# Altium integrated library RF_Filters.IntLib: 2 symbols
Pins are listed as number, name and electrical type; pins without a type are passive.

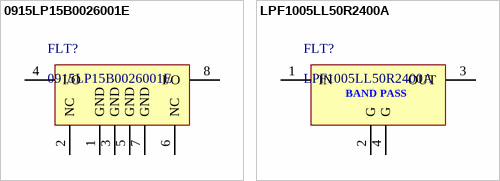
[diagram p0: symbols 0915LP15B0026001E to LPF1005LL50R2400A]

## 0915LP15B0026001E
designator FLT?
Low Pass Filters, 0805, 902-928MHz, 3W, 0.5dB, Ni/Sn (RoHS), 7" Reel Embossed Tape; Manufacturer: Johanson; Frequency: 915MHz; Supplier: DigiKey; Supplier Part Number: 712-0915LP15B0026001ECT-ND; Manufacturer Part Number: 0915LP15B0026001E; RoHS: Compliant; Category: RF Filters; Stock: 83329; Pricing: 1=0,43, 10=0,347, 25=0,3192, 50=0,3004, 100=0,2824, 250=0,26044, 500=0,24496, 1000=0,23041 (USD); Case/Package: 0805; Height: 950µm; Max Operating Temperature: 85°C; Min Operating Temperature: -40°C; ComponentLink1URL: https://datasheet.octopart.com:443/0915LP15B0026001E-Johanson-datasheet-140480301.pdf?src-supplier=Upverter; ComponentLink1Description: https://datasheet.octopart.com:443/0915LP15B0026001E-Johanson-datasheet-140480301.pdf?src-supplier=Upverter
footprint JOHANSON_0915LP15B0026001E
pins: 1 GND, 2 NC, 3 GND, 4 I/O, 5 GND, 6 NC, 7 GND, 8 I/O

## LPF1005LL50R2400A
designator FLT?
Low Pass Filter, 1 Section(s) Min, 1 Section(s) Max, 2450MHz, 4 Pin(s); Manufacturer: Pulse Electronics; Cutoff Frequency: 2.45GHz; Impedance: 50Ω; Insertion Loss (dB): 0.5dB; Supplier: DigiKey; Supplier Part Number: 553-LPF1005LL50R2400ACT-ND; Manufacturer Part Number: LPF1005LL50R2400A; RoHS: Compliant; Category: RF Filters; Stock: 27032; Pricing: 1=0,15, 10=0,122, 25=0,1124, 50=0,1058, 100=0,0994, 250=0,09164, 500=0,08618, 1000=0,08104, 5000=0,07031 (USD); Height: 350µm; Length: 1mm; Lifecycle Status: Production; Max Operating Temperature: 85°C; Min Operating Temperature: -40°C; Number of Terminals: 4; REACH SVHC: Yes; Width: 500µm; ComponentLink1URL: https://datasheet.octopart.com:443/LPF1005LL50R2400A-Pulse-datasheet-159152992.pdf?src-supplier=Master+Electronics; ComponentLink1Description: https://datasheet.octopart.com:443/LPF1005LL50R2400A-Pulse-datasheet-159152992.pdf?src-supplier=Master+Electronics
footprint PULSE_LPF1005LL50R2400A (0402 (1005 Metric), 4 PC Pad)
pins: 1 IN, 2 G, 3 OUT, 4 G
text: BAND PASS